# EAGLE library part LM393 (library FaBo-Parts)
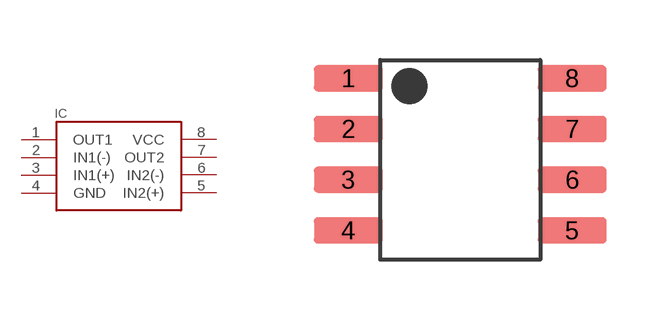
[diagram p4: symbol with the pads of LM393; footprint LM393]

Designator prefix IC

## LM393  [LM393]
1  OUT1
2  IN1(-)
3  IN1(+)
4  GND
5  IN2(+)
6  IN2(-)
7  OUT2
8  VCC

## Footprint LM393 (pad centres in mm)
smd 1.72 x 0.65: 1 -2.8,2.04; 2 -2.8,0.77; 3 -2.8,-0.5; 4 -2.8,-1.77; 5 2.8,-1.77; 6 2.8,-0.5; 7 2.8,0.77; 8 2.8,2.04